# Altium schematic symbol library ACEstat.SchLib: 28 symbols
Pins are listed as number, name and electrical type; pins without a type are passive.

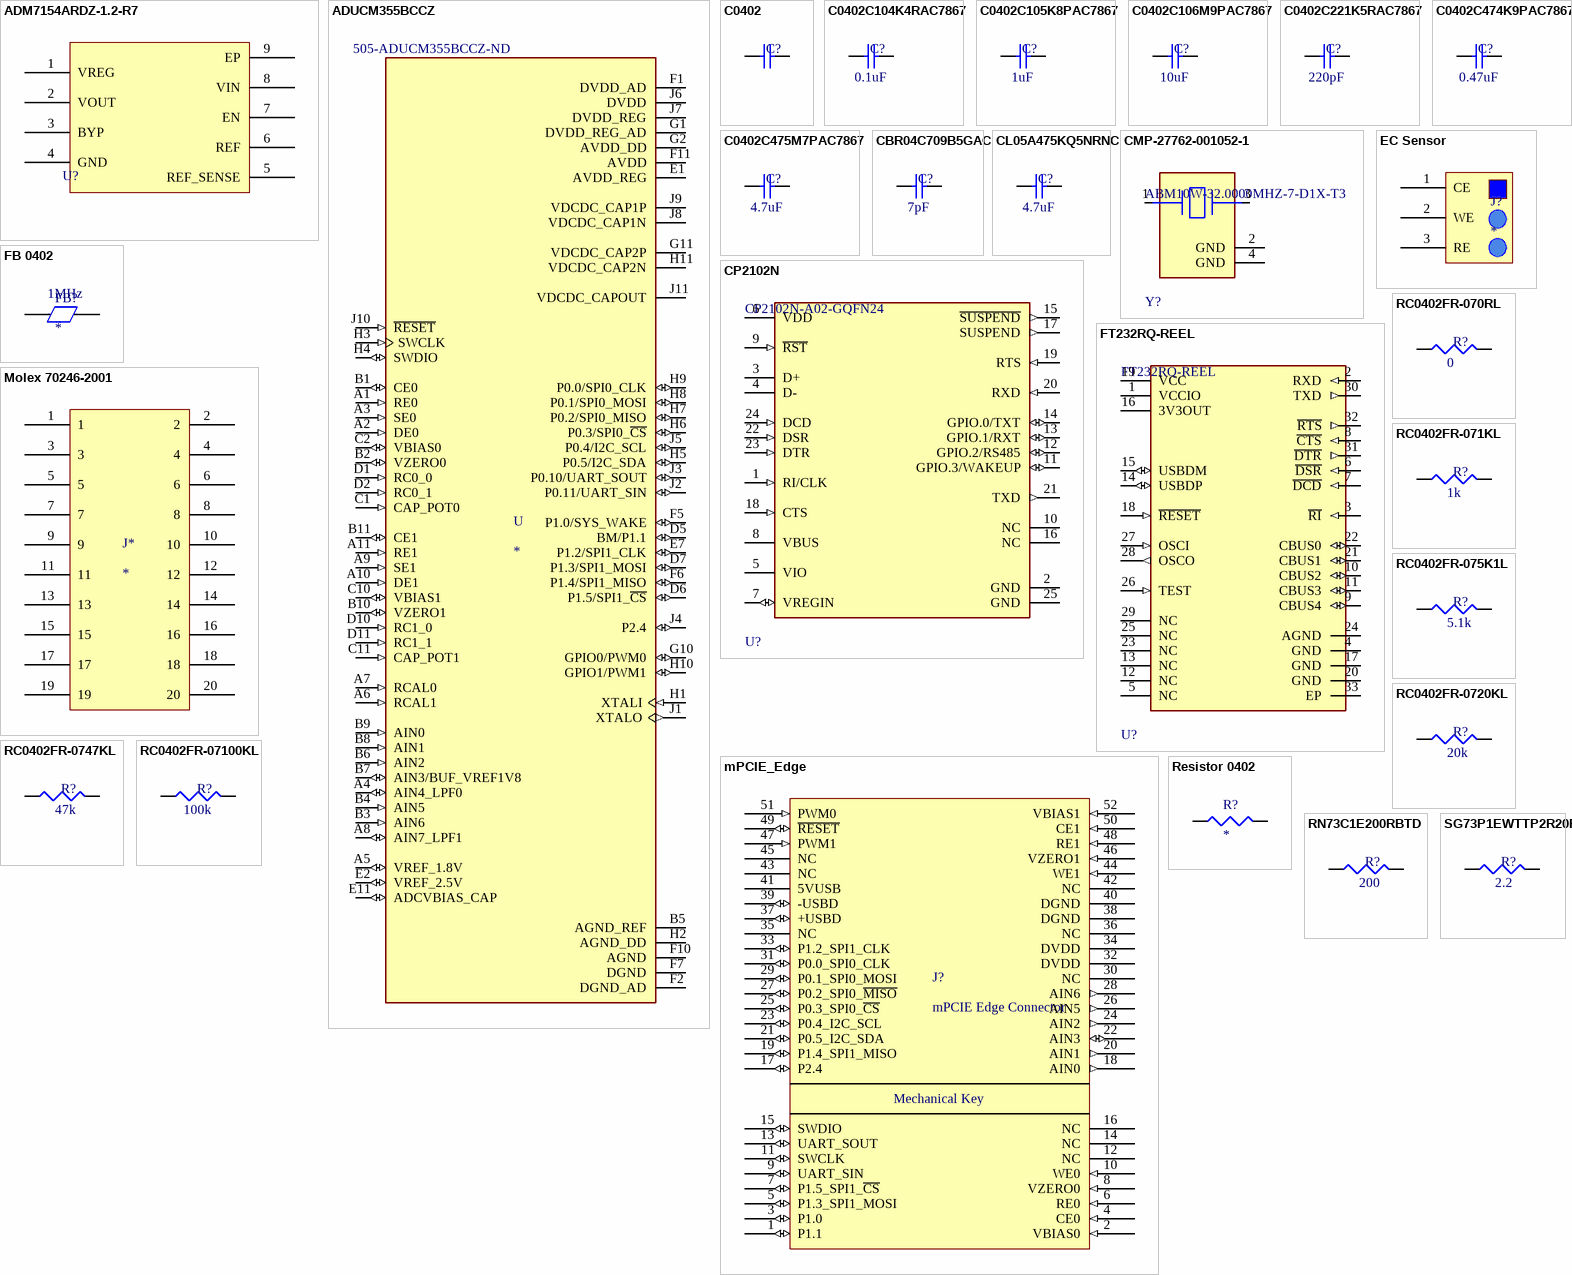
[diagram p0: symbols ADM7154ARDZ-1.2-R7 to SG73P1EWTTP2R20F]

## ADM7154ARDZ-1.2-R7
designator U?
Low noise voltage regulator, ADM7154ARDZ-1.2-R7
footprint SOIC-8
pins: 1 VREG, 2 VOUT, 3 BYP, 4 GND, 5 REF_SENSE, 6 REF, 7 EN, 8 VIN, 9 EP

## ADUCM355BCCZ
designator U  Supplier Part Number 1: 505-ADUCM355BCCZ-ND
ARM® Cortex®-M3 ADuCM Microcontroller IC 32-Bit 26MHz 128KB _128K x 8_ FLASH 72-LGA _6x6_; MF: Analog Devices; MP: ADUCM355BCCZ; SnapEDA_Link: https://www.snapeda.com/parts/ADUCM355BCCZ/Analog%20Devices%20Inc./view-part/3616453/?ref=snap; Value: *; Digi-Key_Part_Number: ADUCM355BCCZ-RL7-ND; Digi-Key_Purchase_URL: https://www.digikey.com/product-detail/en/analog-devices-inc/ADUCM355BCCZ-RL7/ADUCM355BCCZ-RL7-ND/9996949?utm_source=snapeda&utm_medium=aggregator&utm_campaign=symbol; Package: VFLGA-72 Analog Devices Inc.; Supplier 1: Digi-Key
footprint ADUCM355BCCZ
pins: A1 RE0 (in), A2 DE0 (in), A3 SE0 (in), A4 AIN4_LPF0 (io), A5 VREF_1.8V (io), A6 RCAL1 (in), A7 RCAL0 (in), A8 AIN7_LPF1 (io), A9 SE1 (in), A10 DE1 (in), A11 RE1 (in), B1 CE0 (io), B2 VZERO0 (io), B3 AIN6 (in), B4 AIN5 (in), B5 AGND_REF (power), B6 AIN2 (in), B7 AIN3/BUF_VREF1V8 (io), B8 AIN1 (in), B9 AIN0 (in), B10 VZERO1 (io), B11 CE1 (io), C1 CAP_POT0 (in), C2 VBIAS0 (io), C10 VBIAS1 (io), C11 CAP_POT1 (in), D1 RC0_0 (in), D2 RC0_1 (in), D5 BM/P1.1 (io), D6 P1.5/SPI1_~{CS} (io), D7 P1.3/SPI1_MOSI (io), D10 RC1_0 (in), D11 RC1_1 (in), E1 AVDD_REG (power), E2 VREF_2.5V (io), E7 P1.2/SPI1_CLK (io), E11 ADCVBIAS_CAP (io), F1 DVDD_AD (power), F2 DGND_AD (power), F5 P1.0/SYS_WAKE (io), F6 P1.4/SPI1_MISO (io), F7 DGND (power), F10 AGND (power), F11 AVDD (power), G1 DVDD_REG_AD (power), G2 AVDD_DD (power), G10 GPIO0/PWM0 (io), G11 VDCDC_CAP2P (power), H1 XTALI (in), H2 AGND_DD (power), H3 SWCLK (in), H4 SWDIO (io), H5 P0.5/I2C_SDA (io), H6 P0.3/SPI0_~{CS} (io), H7 P0.2/SPI0_MISO (io), H8 P0.1/SPI0_MOSI (io), H9 P0.0/SPI0_CLK (io), H10 GPIO1/PWM1 (io), H11 VDCDC_CAP2N (power), J1 XTALO (out), J2 P0.11/UART_SIN (io), J3 P0.10/UART_SOUT (io), J4 P2.4 (io), J5 P0.4/I2C_SCL (io), J6 DVDD (power), J7 DVDD_REG (power), J8 VDCDC_CAP1N (power), J9 VDCDC_CAP1P (power), J10 ~{RESET} (in), J11 VDCDC_CAPOUT (power)

## C0402
designator C?
Capacitor; Value: *
footprint 0402 SMD (Footprint for 0402 SMD components)
pins: 1, 2

## C0402C104K4RAC7867
designator C?  value 0.1uF
0.1 µF ±10% 16V Ceramic Capacitor X7R 0402 (1005 Metric) Kemet
footprint 0402 SMD (Footprint for 0402 SMD components)
pins: 1, 2

## C0402C105K8PAC7867
designator C?  value 1uF
1 µF ±10% 10V Ceramic Capacitor X5R 0402 (1005 Metric)
footprint 0402 SMD (Footprint for 0402 SMD components)
pins: 1, 2

## C0402C106M9PAC7867
designator C?  value 10uF
10 µF ±20% 6.3V Ceramic Capacitor X5R 0402 (1005 Metric) (1005 Metric) Kemet
footprint 0402 SMD (Footprint for 0402 SMD components)
pins: 1, 2

## C0402C221K5RAC7867
designator C?  value 220pF
220 pF ±10% 50V Ceramic Capacitor X7R 0402 (1005 Metric)Kemet
footprint 0402 SMD (Footprint for 0402 SMD components)
pins: 1, 2

## C0402C474K9PAC7867
designator C?  value 0.47uF
0.47 µF ±10% 6.3V Ceramic Capacitor X5R 0402 (1005 Metric) Kemet
footprint 0402 SMD (Footprint for 0402 SMD components)
pins: 1, 2

## C0402C475M7PAC7867
designator C?  value 4.7uF
4.7 µF ±20% 4V Ceramic Capacitor X5R 0402 (1005 Metric) (1005 Metric) Kemet
footprint 0402 SMD (Footprint for 0402 SMD components)
pins: 1, 2

## CBR04C709B5GAC
designator C?  value 7pF
7 pF ±0.1pF 50V Ceramic Capacitor C0G, NP0 0402 (1005 Metric) Kemet
footprint 0402 SMD (Footprint for 0402 SMD components)
pins: 1, 2

## CL05A475KQ5NRNC
designator C?  value 4.7uF
4.7 µF ±10% 6.3V Ceramic Capacitor X5R 0402 (1005 Metric) Samsung
footprint 0402 SMD (Footprint for 0402 SMD components)
pins: 1, 2

## CMP-27762-001052-1
designator Y?, comment ABM10W-32.0000MHZ-7-D1X-T3
Crystal 32MHz ±10ppm 7pF SMD-4 2.5mm x 2mm
footprint FP-ABM10W-MFG
pins: 1, 2 GND (power), 3, 4 GND (power)

## CP2102N
designator U?, comment CP2102N-A02-GQFN24
IC USB TO UART BRIDGE QFN24
footprint FP-CP2102N-A02-GQFN24R-IPC_A
footprint FP-CP2102N-A02-GQFN24R-IPC_C
footprint FP-CP2102N-A02-GQFN24R-MFG
footprint FP-CP2102N-A02-GQFN24R-IPC_B
pins: 1 RI/CLK (in), 2 GND (power), 3 D+, 4 D-, 5 VIO (power), 6 VDD (power), 7 VREGIN (io), 8 VBUS (power), 9 ~{RST} (in), 10 NC, 11 GPIO.3/WAKEUP (io), 12 GPIO.2/RS485 (io), 13 GPIO.1/RXT (io), 14 GPIO.0/TXT (io), 15 ~{SUSPEND} (out), 16 NC, 17 SUSPEND (out), 18 CTS (in), 19 RTS (in), 20 RXD (in), 21 TXD (out), 22 DSR (in), 23 DTR (in), 24 DCD (in), 25 GND (power)

## EC Sensor
designator J?
3-pin header for electrode connection
footprint 3-Pin Head 2.54mm
pins: 1 CE, 2 WE, 3 RE

## FB 0402
designator FB?  value 1MHz
0402 SMD ferrite bead
footprint 0402 SMD
pins: 1, 2

## FT232RQ-REEL
designator U?
IC USB FS SERIAL UART 32-QFN; Max Supply Voltage: 5.25V; Min Supply Voltage: 3.3V; Data Rate: 12Mbps; Operating Supply Current: 15mA; Number of Channels: 1; Operating Supply Voltage: 5V; Package Quantity: 6000; Min Operating Temperature: -40°C; Interface: UART; Max Operating Temperature: 85°C; Mount: Surface Mount; Lead Free: Lead Free; Weight: 0.006653oz; Width: 5mm; Radiation Hardening: No; Length: 5mm; Packaging: Tape and Reel; Number of Pins: 32; Case/Package: QFN EP
footprint FP-QFN-32_5x5-MFG
pins: 1 VCCIO (power), 2 RXD (in), 3 ~{RI} (in), 4 GND (power), 5 NC, 6 ~{DSR} (in), 7 ~{DCD} (in), 8 ~{CTS} (in), 9 CBUS4 (io), 10 CBUS2 (io), 11 CBUS3 (io), 12 NC, 13 NC, 14 USBDP (io), 15 USBDM (io), 16 3V3OUT (power), 17 GND (power), 18 ~{RESET} (in), 19 VCC (power), 20 GND (power), 21 CBUS1 (io), 22 CBUS0 (io), 23 NC, 24 AGND (power), 25 NC, 26 TEST (in), 27 OSCI (in), 28 OSCO (out), 29 NC, 30 TXD (out), 31 ~{DTR} (out), 32 ~{RTS} (out), 33 EP

## Molex 70246-2001
designator J*
20-pin JTAG female connector
footprint Molex 70246-2001 (20-Pin JTAG Female connector)
pins: 1, 2, 3, 4, 5, 6, 7, 8, 9, 10, 11, 12, 13, 14, 15, 16, 17, 18, 19, 20

## mPCIE_Edge
designator J?, comment mPCIE Edge Connector
footprint MPCIE_CARD_EDGE (Based on https://www.te.com/commerce/DocumentDelivery/DDEController?Action=srchrtrv&DocNm=1775838&DocType=Customer+Drawing&DocLang=English)
pins: 1 P1.1 (io), 2 VBIAS0 (in), 3 P1.0 (io), 4 CE0 (in), 5 P1.3_SPI1_MOSI (io), 6 RE0 (in), 7 P1.5_SPI1_~{CS} (io), 8 VZERO0 (in), 9 UART_SIN (io), 10 WE0 (in), 11 SWCLK (io), 12 NC, 13 UART_SOUT (io), 14 NC, 15 SWDIO (io), 16 NC, 17 P2.4 (io), 18 AIN0 (out), 19 P1.4_SPI1_MISO (io), 20 AIN1 (out), 21 P0.5_I2C_SDA (io), 22 AIN3 (io), 23 P0.4_I2C_SCL (io), 24 AIN2 (out), 25 P0.3_SPI0_~{CS} (io), 26 AIN5 (out), 27 P0.2_SPI0_~{MISO} (io), 28 AIN6 (out), 29 P0.1_SPI0_MOSI (io), 30 NC, 31 P0.0_SPI0_CLK (io), 32 DVDD (power), 33 P1.2_SPI1_CLK (io), 34 DVDD (power), 35 NC, 36 NC, 37 +USBD (io), 38 DGND (power), 39 -USBD (io), 40 DGND (power), 41 5VUSB (power), 42 NC, 43 NC, 44 WE1 (in), 45 NC, 46 VZERO1 (in), 47 PWM1 (in), 48 RE1 (in), 49 ~{RESET} (io), 50 CE1 (in), 51 PWM0 (in), 52 VBIAS1 (in)
text: Mechanical Key

## RC0402FR-070RL
designator R?  value 0
0 Ohms Jumper 0.063W, 1/16W Chip Resistor 0402 (1005 Metric) Moisture Resistant Thick Film
footprint 0402 SMD (Footprint for 0402 SMD components)
pins: 1, 2

## RC0402FR-071KL
designator R?  value 1k
1 kOhms ±1% 0.063W, 1/16W Chip Resistor 0402 (1005 Metric) Moisture Resistant Thick Film
footprint 0402 SMD (Footprint for 0402 SMD components)
pins: 1, 2

## RC0402FR-075K1L
designator R?  value 5.1k
5.1 kOhms ±1% 0.063W, 1/16W Chip Resistor 0402 (1005 Metric) Moisture Resistant Thick Film
footprint 0402 SMD (Footprint for 0402 SMD components)
pins: 1, 2

## RC0402FR-0720KL
designator R?  value 20k
20 kOhms ±1% 0.063W, 1/16W Chip Resistor 0402 (1005 Metric) Moisture Resistant Thick Film
footprint 0402 SMD (Footprint for 0402 SMD components)
pins: 1, 2

## RC0402FR-0747KL
designator R?  value 47k
47 kOhms ±1% 0.063W, 1/16W Chip Resistor 0402 (1005 Metric) Moisture Resistant Thick Film
footprint 0402 SMD (Footprint for 0402 SMD components)
pins: 1, 2

## RC0402FR-07100KL
designator R?  value 100k
100 kOhms ±1% 0.063W, 1/16W Chip Resistor 0402 (1005 Metric) Moisture Resistant Thick Film
footprint 0402 SMD (Footprint for 0402 SMD components)
pins: 1, 2

## Resistor 0402
designator R?
0402 SMD resistor
footprint 0402 SMD (Footprint for 0402 SMD components)
pins: 1, 2

## RN73C1E200RBTD
designator R?  value 200
200 Ohms ±0.1% 0.063W, 1/16W Chip Resistor 0402 (1005 Metric) Thin Film
footprint 0402 SMD (Footprint for 0402 SMD components)
pins: 1, 2

## SG73P1EWTTP2R20F
designator R?  value 2.2
2.2 Ohms ±1% 0.25W, 1/4W Chip Resistor 0402 (1005 Metric) Automotive AEC-Q200, Pulse Withstanding Thick Film
footprint 0402 SMD (Footprint for 0402 SMD components)
pins: 1, 2

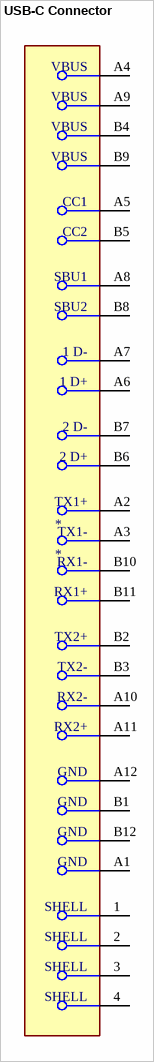
[diagram p1: symbol USB-C Connector]

## USB-C Connector
designator *
Amphenol USB-C Connector
footprint USB-C Connector
pins: 1 SHELL (power), 2 SHELL (power), 3 SHELL (power), 4 SHELL (power), A1 GND (power), A2 TX1+, A3 TX1-, A4 VBUS (power), A5 CC1, A6 1 D+, A7 1 D-, A8 SBU1, A9 VBUS (power), A10 RX2-, A11 RX2+, A12 GND (power), B1 GND (power), B2 TX2+, B3 TX2-, B4 VBUS (power), B5 CC2, B6 2 D+, B7 2 D-, B8 SBU2, B9 VBUS (power), B10 RX1-, B11 RX1+, B12 GND (power)